# Altium integrated library con-amp-micromatch.IntLib: 9 symbols
Pins are listed as number, name and electrical type; pins without a type are passive.

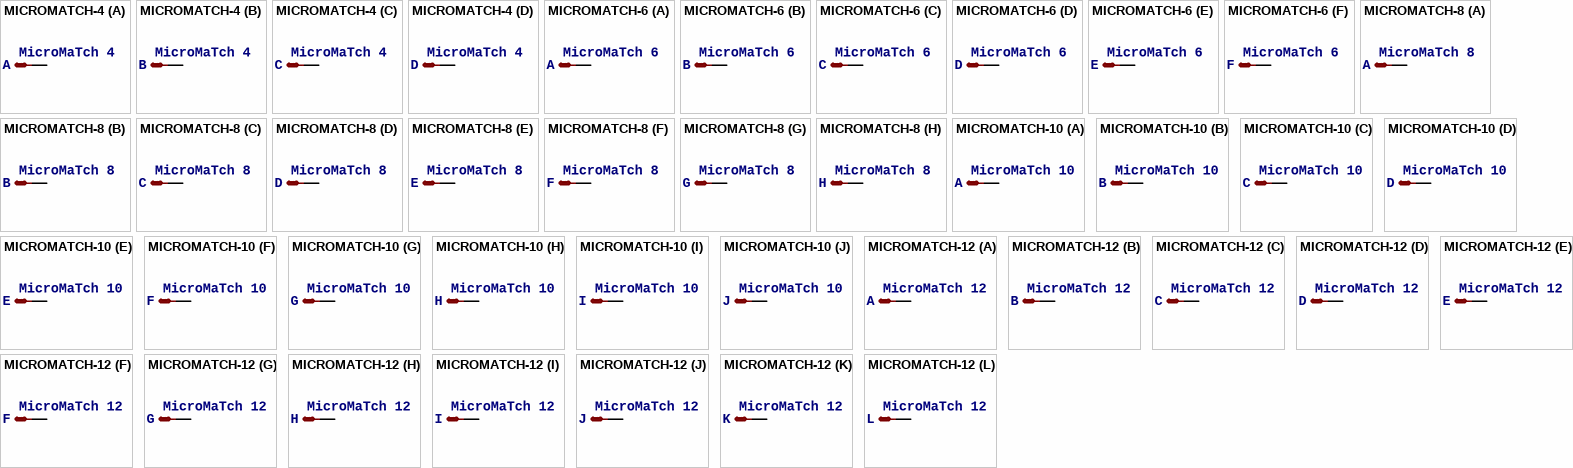
[diagram p0: symbols MICROMATCH-4 to MICROMATCH-12]

## MICROMATCH-4
designator X?, comment MicroMaTch 4  7-215464-4 / 0-215464-4   Drawing Number C-215464 DDEController.pdf
MPN: 7-215464-4; OC_FARNELL: 3784629; OC_NEWARK: 19R8124
footprint MICROMATCH-4
part A pins: 1 S
part B pins: 2 S
part C pins: 3 S
part D pins: 4 S

## MICROMATCH-6
designator X?, comment MicroMaTch 6  7-215464-6 / 0-215464-6   Drawing Number C-215464 DDEController.pdf
MPN: 7-215464-6; OC_FARNELL: 3784630; OC_NEWARK: 19R8125
footprint MICROMATCH-6
part A pins: 1 S
part B pins: 2 S
part C pins: 3 S
part D pins: 4 S
part E pins: 5 S
part F pins: 6 S

## MICROMATCH-8
designator X?, comment MicroMaTch 8  7-215464-8 / 0-215464-8   Drawing Number C-215464 DDEController.pdf
MF: FARNELL; MPN: 7-215464-8; OC_FARNELL: 3784642; OC_NEWARK: 26H0301
footprint MICROMATCH-8
part A pins: 1 S
part B pins: 2 S
part C pins: 3 S
part D pins: 4 S
part E pins: 5 S
part F pins: 6 S
part G pins: 7 S
part H pins: 8 S

## MICROMATCH-10
designator X?, comment MicroMaTch 10  8-215464-0 / 1-215464-0   Drawing Number C-215464 DDEController.pdf
MF: FARNELL; MPN: 8-215464-0; OC_FARNELL: 3784654; OC_NEWARK: 19J6430
footprint MICROMATCH-10
part A pins: 1 S
part B pins: 2 S
part C pins: 3 S
part D pins: 4 S
part E pins: 5 S
part F pins: 6 S
part G pins: 7 S
part H pins: 8 S
part I pins: 9 S
part J pins: 10 S

## MICROMATCH-12
designator X?, comment MicroMaTch 12  8-215464-2 / 1-215464-2   Drawing Number C-215464 DDEController.pdf
MF: FARNELL; MPN: 8-215464-2; OC_FARNELL: 3784666; OC_NEWARK: 95H9857
footprint MICROMATCH-12
part A pins: 1 S
part B pins: 2 S
part C pins: 3 S
part D pins: 4 S
part E pins: 5 S
part F pins: 6 S
part G pins: 7 S
part H pins: 8 S
part I pins: 9 S
part J pins: 10 S
part K pins: 11 S
part L pins: 12 S

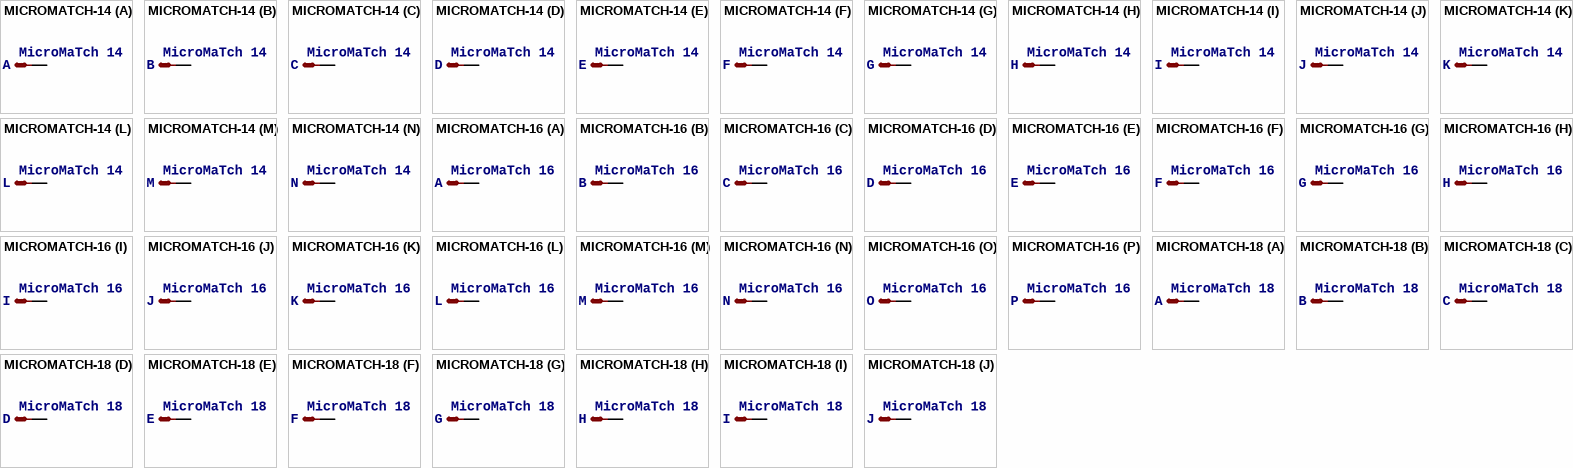
[diagram p1: symbols MICROMATCH-14 to MICROMATCH-18]

## MICROMATCH-14
designator X?, comment MicroMaTch 14  8-215464-4 / 1-215464-4   Drawing Number C-215464 DDEController.pdf
MF: FARNELL; MPN: 8-215464-4; OC_FARNELL: 3784678; OC_NEWARK: 19J6431
footprint MICROMATCH-14
part A pins: 1 S
part B pins: 2 S
part C pins: 3 S
part D pins: 4 S
part E pins: 5 S
part F pins: 6 S
part G pins: 7 S
part H pins: 8 S
part I pins: 9 S
part J pins: 10 S
part K pins: 11 S
part L pins: 12 S
part M pins: 13 S
part N pins: 14 S

## MICROMATCH-16
designator X?, comment MicroMaTch 16  8-215464-6 / 1-215464-6   Drawing Number C-215464 DDEController.pdf
MF: FARNELL; MPN: 8-215464-6; OC_FARNELL: 3784680; OC_NEWARK: 26H3309
footprint MICROMATCH-16
part A pins: 1 S
part B pins: 2 S
part C pins: 3 S
part D pins: 4 S
part E pins: 5 S
part F pins: 6 S
part G pins: 7 S
part H pins: 8 S
part I pins: 9 S
part J pins: 10 S
part K pins: 11 S
part L pins: 12 S
part M pins: 13 S
part N pins: 14 S
part O pins: 15 S
part P pins: 16 S

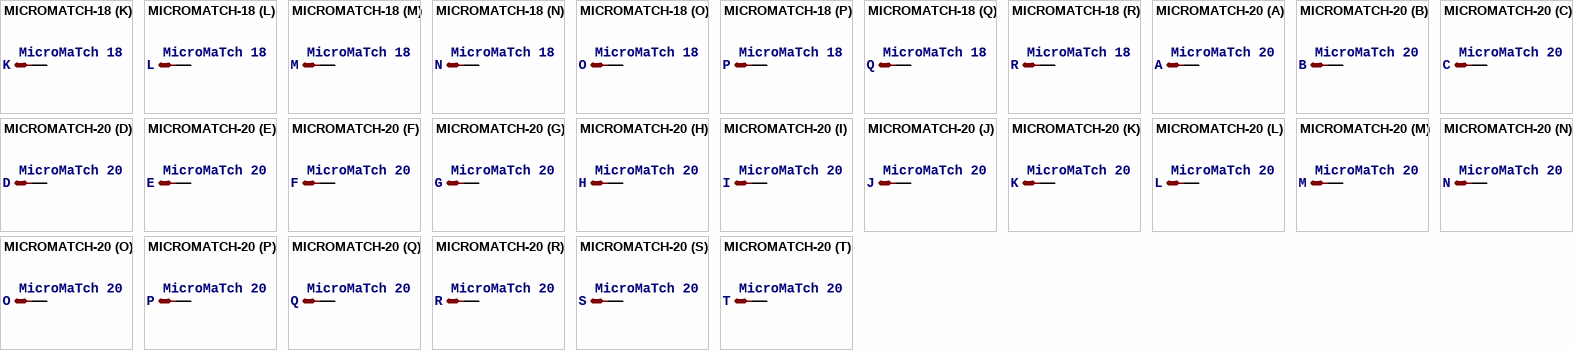
[diagram p2: symbols MICROMATCH-18 to MICROMATCH-20]

## MICROMATCH-18
designator X?, comment MicroMaTch 18  8-215464-8 / 1-215464-8   Drawing Number C-215464 DDEController.pdf
MPN: 8-215464-8; OC_FARNELL: 3784691; OC_NEWARK: 19R9303
footprint MICROMATCH-18
part A pins: 1 S
part B pins: 2 S
part C pins: 3 S
part D pins: 4 S
part E pins: 5 S
part F pins: 6 S
part G pins: 7 S
part H pins: 8 S
part I pins: 9 S
part J pins: 10 S
part K pins: 11 S
part L pins: 12 S
part M pins: 13 S
part N pins: 14 S
part O pins: 15 S
part P pins: 16 S
part Q pins: 17 S
part R pins: 18 S

## MICROMATCH-20
designator X?, comment MicroMaTch 20  9-215464-0 / 2-215464-0   Drawing Number C-215464 DDEController.pdf
MF: FARNELL; MPN: 9-215464-0; OC_FARNELL: 3784708; OC_NEWARK: 19J6798
footprint MICROMATCH-20
part A pins: 1 S
part B pins: 2 S
part C pins: 3 S
part D pins: 4 S
part E pins: 5 S
part F pins: 6 S
part G pins: 7 S
part H pins: 8 S
part I pins: 9 S
part J pins: 10 S
part K pins: 11 S
part L pins: 12 S
part M pins: 13 S
part N pins: 14 S
part O pins: 15 S
part P pins: 16 S
part Q pins: 17 S
part R pins: 18 S
part S pins: 19 S
part T pins: 20 S